# Altium integrated library NSC Sensor Fluid Detector.IntLib: 2 symbols
Pins are listed as number, name and electrical type; pins without a type are passive.

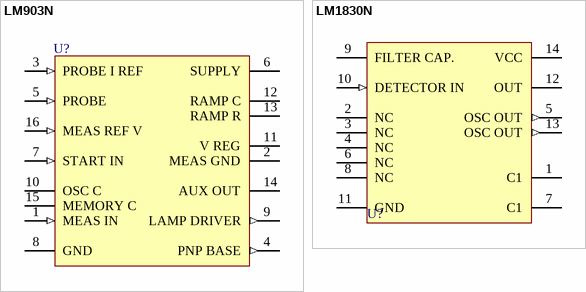
[diagram p0: symbols LM903N to LM1830N]

## LM903N
designator U?
Fluid Level Detector; ComponentAvailability: Obsolete; Published: 15-Apr-2002; LatestRevisionDate: 06-Jun-2005; LatestRevisionNote: Stylized 3D Model Added.; DatasheetVersion: Feb-1995; PackageVersion: 2000; PackageReference: N16E; Publisher: Altium Limited; PackageDescription: DIP; 16 Leads; Row Spacing 7.62 mm; Pitch 2.54 mm; ComponentLink1Description: Manufacturer Link; ComponentLink1URL: http://www.national.com/; ComponentLink2Description: Discontinuation Notice; ComponentLink2URL: http://www.national.com/obs/obsolescence.txt
footprint N16E (DIP; 16 Leads; Row Spacing 7.62 mm; Pitch 2.54 mm)
3D model N16E (DIP; 16 Leads; Row Spacing 7.62 mm; Pitch 2.54 mm)
pins: 1 MEAS IN (in), 2 MEAS GND, 3 PROBE I REF (in), 4 PNP BASE (out), 5 PROBE (in), 6 SUPPLY (power), 7 START IN (in), 8 GND (power), 9 LAMP DRIVER (out), 10 OSC C, 11 V REG, 12 RAMP C, 13 RAMP R, 14 AUX OUT, 15 MEMORY C, 16 MEAS REF V (in)

## LM1830N
designator U?
Fluid Detector; ComponentAvailability: Obsolete; Published: 15-Apr-2002; LatestRevisionDate: 06-Jun-2005; LatestRevisionNote: Stylized 3D Model Added.; DatasheetVersion: Feb-1995; PackageVersion: 2000; PackageReference: N14A; Publisher: Altium Limited; PackageDescription: DIP; 14 Leads; Row Spacing 7.62 mm; Pitch 2.54 mm; ComponentLink1Description: Manufacturer Link; ComponentLink1URL: http://www.national.com/; ComponentLink2Description: Discontinuation Notice; ComponentLink2URL: http://www.national.com/obs/obsolescence.txt
footprint N14A (DIP; 14 Leads; Row Spacing 7.62 mm; Pitch 2.54 mm)
3D model N14A (DIP; 14 Leads; Row Spacing 7.62 mm; Pitch 2.54 mm)
pins: 1 C1, 2 NC, 3 NC, 4 NC, 5 OSC OUT (out), 6 NC, 7 C1, 8 NC, 9 FILTER CAP., 10 DETECTOR IN (in), 11 GND (power), 12 OUT (oc), 13 OSC OUT (out), 14 VCC (power)